# Altium footprint library FreedomKL25Z.PcbLib: 1 footprints
Each footprint in its own frame and in the unit in brackets; x right, y up, seen from the top. Pads: shape width x height; smd on the part's side, far side on the other; paste and mask are expansions set on the pad; w line width, h text height; cw(c..) or ccw(c..) is an arc to the next point about the centre after c.
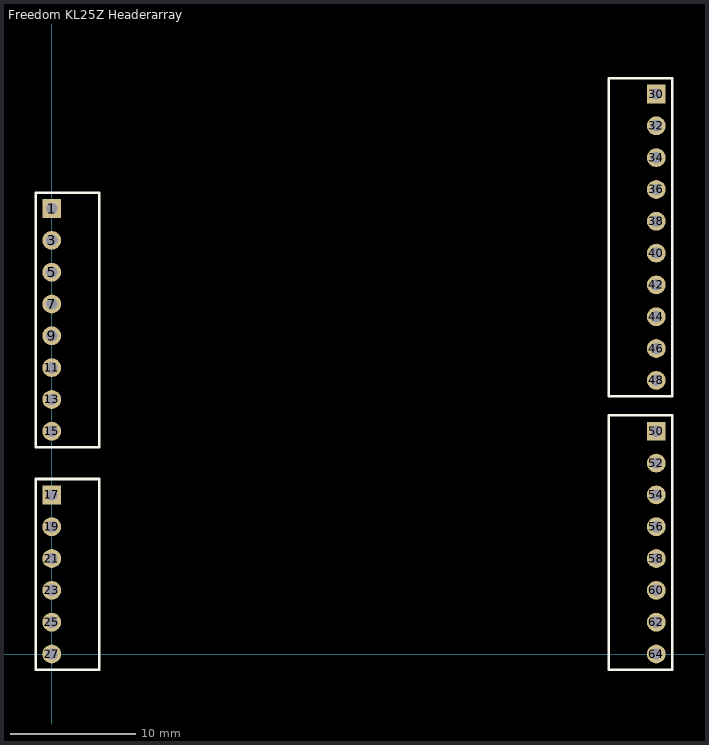
[diagram p0: the footprint, top view; thin cyan lines are the x and y axes]

## Freedom KL25Z Headerarray [mm] "Headerarray KL25Z Shield"
pads (32):
  rect 1.5x1.5 hole 0.9: 1(0,35.56) 17(0,12.7) 30(48.26,44.704) 50(48.26,17.78)
  round 1.5 hole 0.9: 3(0,33.02) 5(0,30.48) 7(0,27.94) 9(0,25.4) 11(0,22.86) 13(0,20.32) 15(0,17.78) 19(0,10.16) 21(0,7.62) 23(0,5.08) 25(0,2.54) 27(0,0) 32(48.26,42.164) 34(48.26,39.624) 36(48.26,37.084) 38(48.26,34.544) 40(48.26,32.004) 42(48.26,29.464) 44(48.26,26.924) 46(48.26,24.384) 48(48.26,21.844) 52(48.26,15.24) 54(48.26,12.7) 56(48.26,10.16) 58(48.26,7.62) 60(48.26,5.08) 62(48.26,2.54) 64(48.26,0)
Top Overlay:
  lines w0.2: -1.27,-1.27 -1.27,13.97 3.81,13.97 3.81,-1.27 -1.27,-1.27 ; -1.27,16.51 3.81,16.51 3.81,36.83 -1.27,36.83 -1.27,16.51 ; 44.45,-1.27 49.53,-1.27 49.53,19.05 44.45,19.05 44.45,-1.27 ; 44.45,20.574 49.53,20.574 49.53,44.069 49.53,45.974 44.45,45.974 44.45,44.069 44.45,20.574